# EAGLE library part 082 (library bao18)
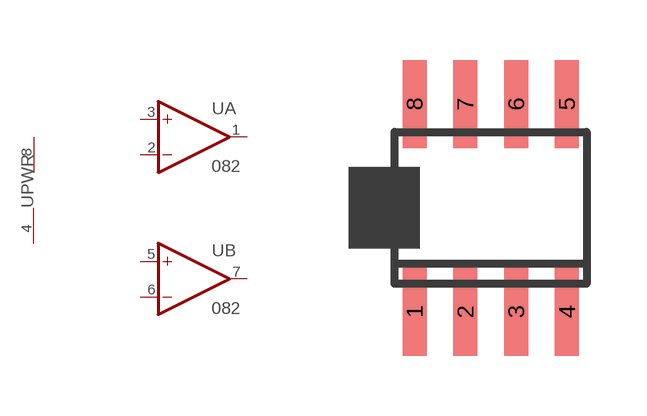
[diagram p9: symbol with the pads of SOIC08; footprint SOIC08]

Designator prefix U; gates A=OPAMP B=OPAMP PWR=PWR+-

## 082 (NHPREF: 10; POPULATE: TRUE; VALUE: TL082)  [SOIC08]
1  A:OUT  out
2  A:-IN  in
3  A:+IN  in
4  PWR:V-  pwr
5  B:+IN  in
6  B:-IN  in
7  B:OUT  out
8  PWR:V+  pwr

## Footprint SOIC08 (pad centres in mm)
Small Outline Package 8 NS Package M08A
smd 0.6 x 2.2: 1 -1.905,-2.6; 2 -0.635,-2.6; 3 0.635,-2.6; 4 1.905,-2.6; 5 1.905,2.6; 6 0.635,2.6; 7 -0.635,2.6; 8 -1.905,2.6